# Altium footprint library adcs_pcb_lib.PcbLib: 11 footprints
Each footprint in its own frame and in the unit in brackets; x right, y up, seen from the top. Pads: shape width x height; smd on the part's side, far side on the other; paste and mask are expansions set on the pad; w line width, h text height; cw(c..) or ccw(c..) is an arc to the next point about the centre after c.
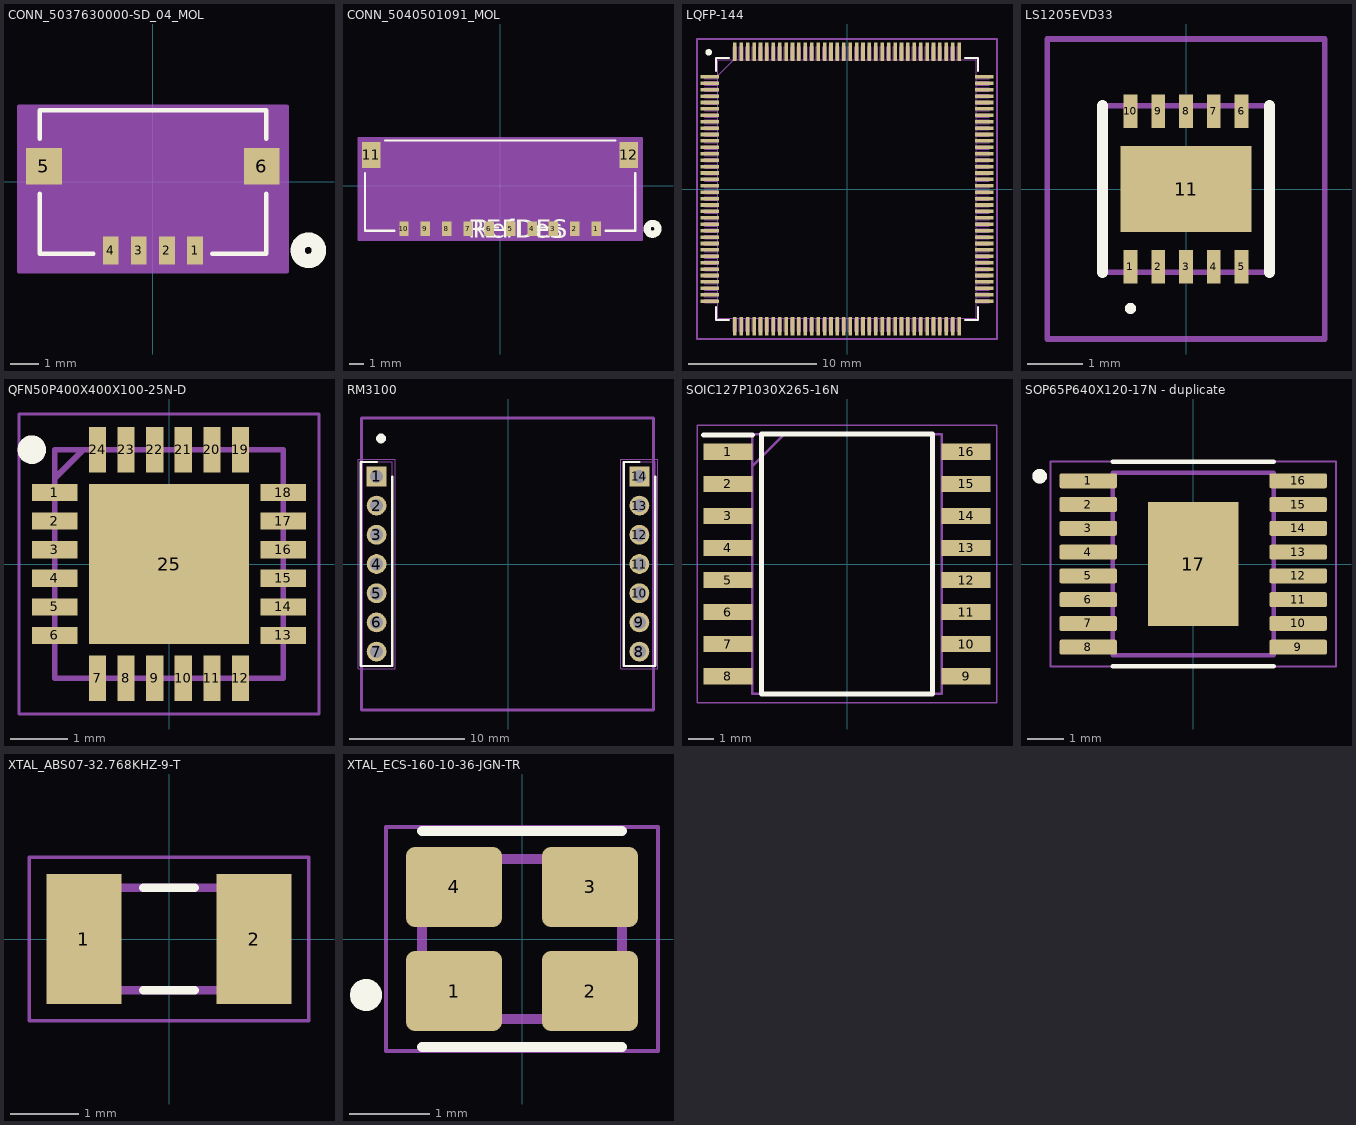
[diagram p0: the footprints below, top view; thin cyan lines are the x and y axes]

## CONN_5037630000-SD_04_MOL [mil]
pads (6):
  rect 22x39 smd paste+0 mask+0: 1(59.06,-95.84) 2(19.68,-95.84) 3(-19.68,-95.84) 4(-59.06,-95.84)
  rect 50x51 smd paste+0 mask+0: 5(-152.56,21.88) 6(152.56,21.88)
Top Overlay:
  circle w20: c217.56,-95.84 r15
  lines w6: -158.5,-16.72 -158.5,-100.5 -83.16,-100.5 ; -158.5,60.48 -158.5,100.5 158.5,100.5 158.5,60.48 ; 83.16,-100.5 158.5,-100.5 158.5,-16.72
Bottom Overlay:
  circle w20: c217.56,-95.84 r15
Mechanical 13:
  circle w20: c59.06,-95.84 r15
  lines w1: -153.5,-95.5 -153.5,95.5 153.5,95.5 153.5,-95.5 -153.5,-95.5
Mechanical 15:
  region: 187.56,105.5 -187.56,105.5 -187.56,-125.34 187.56,-125.34
  lines w6: -187.56,-125.34 187.56,-125.34 187.56,105.5 -187.56,105.5 -187.56,-125.34
3D body "5037630491.stp": height 55.91, standoff -3.15, extent -169.29,-105 169.29,99.33

## CONN_5040501091_MOL [mil]
pads (12):
  rect 26x41 smd paste+0 mask+0: 1(265.75,-119.76) 2(206.69,-119.76) 3(147.64,-119.76) 4(88.58,-119.76) 5(29.53,-119.76) 6(-29.53,-119.76) 7(-88.58,-119.76) 8(-147.64,-119.76) 9(-206.69,-119.76) 10(-265.75,-119.76)
  rect 51x73 smd paste+0 mask+0: 11(-356.5,84.57) 12(356.5,84.57)
Top Overlay:
  circle w20: c422,-119.76 r15
  lines w6: -374,34.97 -374,-125 -291.85,-125 ; -318.5,125 318.5,125 ; 291.85,-125 374,-125 374,34.97
  text "RefDes" at -75,-144.76 h50
  text "REFDES" at -87.5,-144.76 h50
Bottom Overlay:
  circle w20: c422,-119.76 r15
Mechanical 13:
  circle w20: c265.75,-119.76 r15
  lines w1: -369,-120 369,-120 369,120 -369,120 -369,-120
  text "RefDes2" at -87.5,-144.76 h50
Mechanical 15:
  region: 392,131.07 -392,131.07 -392,-150.26 392,-150.26
  lines w6: -392,-150.26 -392,131.07 392,131.07 392,-150.26 -392,-150.26

## LQFP-144 [mil]
pads (144):
  rect 57.56x11 smd paste+0: 1(-422,344.49) 2(-422,324.8) 3(-422,305.12) 4(-422,285.43) 5(-422,265.75) 6(-422,246.06) 7(-422,226.38) 8(-422,206.69) 9(-422,187.01) 10(-422,167.32) 11(-422,147.64) 12(-422,127.95) 13(-422,108.27) 14(-422,88.58) 15(-422,68.9) 16(-422,49.21) 17(-422,29.53) 18(-422,9.84) 19(-422,-9.84) 20(-422,-29.53) 21(-422,-49.21) 22(-422,-68.9) 23(-422,-88.58) 24(-422,-108.27) 25(-422,-127.95) 26(-422,-147.64) 27(-422,-167.32) 28(-422,-187.01) 29(-422,-206.69) 30(-422,-226.38) 31(-422,-246.06) 32(-422,-265.75) 33(-422,-285.43) 34(-422,-305.12) 35(-422,-324.8) 36(-422,-344.49) 73(422,-344.49) 74(422,-324.8) 75(422,-305.12) 76(422,-285.43) 77(422,-265.75) 78(422,-246.06) 79(422,-226.38) 80(422,-206.69) 81(422,-187.01) 82(422,-167.32) 83(422,-147.64) 84(422,-127.95) 85(422,-108.27) 86(422,-88.58) 87(422,-68.9) 88(422,-49.21) 89(422,-29.53) 90(422,-9.84) 91(422,9.84) 92(422,29.53) 93(422,49.21) 94(422,68.9) 95(422,88.58) 96(422,108.27) 97(422,127.95) 98(422,147.64) 99(422,167.32) 100(422,187.01) 101(422,206.69) 102(422,226.38) 103(422,246.06) 104(422,265.75) 105(422,285.43) 106(422,305.12) 107(422,324.8) 108(422,344.49)
  rect 11x57.56 smd paste+0: 37(-344.49,-422) 38(-324.8,-422) 39(-305.12,-422) 40(-285.43,-422) 41(-265.75,-422) 42(-246.06,-422) 43(-226.38,-422) 44(-206.69,-422) 45(-187.01,-422) 46(-167.32,-422) 47(-147.64,-422) 48(-127.95,-422) 49(-108.27,-422) 50(-88.58,-422) 51(-68.9,-422) 52(-49.21,-422) 53(-29.53,-422) 54(-9.84,-422) 55(9.84,-422) 56(29.53,-422) 57(49.21,-422) 58(68.9,-422) 59(88.58,-422) 60(108.27,-422) 61(127.95,-422) 62(147.64,-422) 63(167.32,-422) 64(187.01,-422) 65(206.69,-422) 66(226.38,-422) 67(246.06,-422) 68(265.75,-422) 69(285.43,-422) 70(305.12,-422) 71(324.8,-422) 72(344.49,-422) 109(344.49,422) 110(324.8,422) 111(305.12,422) 112(285.43,422) 113(265.75,422) 114(246.06,422) 115(226.38,422) 116(206.69,422) 117(187.01,422) 118(167.32,422) 119(147.64,422) 120(127.95,422) 121(108.27,422) 122(88.58,422) 123(68.9,422) 124(49.21,422) 125(29.53,422) 126(9.84,422) 127(-9.84,422) 128(-29.53,422) 129(-49.21,422) 130(-68.9,422) 131(-88.58,422) 132(-108.27,422) 133(-127.95,422) 134(-147.64,422) 135(-167.32,422) 136(-187.01,422) 137(-206.69,422) 138(-226.38,422) 139(-246.06,422) 140(-265.75,422) 141(-285.43,422) 142(-305.12,422) 143(-324.8,422) 144(-344.49,422)
Top Overlay:
  circle w10: c-425,420 r5
  lines w6: -402.5,-363.09 -402.5,-402.5 -363.09,-402.5 ; -402.5,363.09 -402.5,402.5 -363.09,402.5 ; 363.09,-402.5 402.5,-402.5 402.5,-363.09 ; 363.09,402.5 402.5,402.5 402.5,363.09
Mechanical 13:
  drawing of 581 lines, arcs and shapes, not listed
  text ".Designator" at -137.5,-25 h50
  text "*" at -355,315 h50
Mechanical 15:
  lines w6: -460.78,-460.78 -460.78,-359.99 -460.78,450 -460.78,459.22 -459.22,460.78 -359.99,460.78 359.99,460.78 460.78,460.78 460.78,359.99 460.78,-359.99 460.78,-460.78 359.99,-460.78 -359.99,-460.78 -460.78,-460.78
3D body "LQFP-144.step": height 63.11, standoff 0, extent -437.01,-437.01 437.01,437.01

## LS1205EVD33 [mm]
pads (11):
  rect 0.25x0.6 smd: 1(-1,-1.4) 2(-0.5,-1.4) 3(0,-1.4) 4(0.5,-1.4) 5(1,-1.4) 6(1,1.4) 7(0.5,1.4) 8(0,1.4) 9(-0.5,1.4) 10(-1,1.4)
  rect 2.35x1.55 smd: 11(0,0)
Top Overlay:
  lines w0.1: -1,-2.2 ccw(c-1,-2.15) -1,-2.1 ccw(c-1,-2.15) -1,-2.2
  lines w0.2: -1.5,-1.5 -1.5,1.5 ; 1.5,-1.5 1.5,1.5
Mechanical 15:
  lines w0.1: -1.5,-1.5 1.5,-1.5 1.5,1.5 -1.5,1.5 -1.5,-1.5
Mechanical 20:
  lines w0.1: -2.5,-2.7 2.5,-2.7 2.5,2.7 -2.5,2.7 -2.5,-2.7
3D body "LS1205EVD33.stp": height 0.75, standoff 0, extent -1.5,-1.5 1.5,1.5

## PCBComponent_1 [mm]

## QFN50P400X400X100-25N-D [mm]
pads (25):
  rect 0.8x0.3 smd: 1(-2,1.25) 2(-2,0.75) 3(-2,0.25) 4(-2,-0.25) 5(-2,-0.75) 6(-2,-1.25) 13(2,-1.25) 14(2,-0.75) 15(2,-0.25) 16(2,0.25) 17(2,0.75) 18(2,1.25)
  rect 0.3x0.8 smd: 7(-1.25,-2) 8(-0.75,-2) 9(-0.25,-2) 10(0.25,-2) 11(0.75,-2) 12(1.25,-2) 19(1.25,2) 20(0.75,2) 21(0.25,2) 22(-0.25,2) 23(-0.75,2) 24(-1.25,2)
  rect 2.8x2.8 smd: 25(0,0)
Top Overlay:
  circle w0.25: c-2.4,2 r0.125
Mechanical 13:
  lines w0.1: -2,1.5 -1.5,2 ; -2,-2 2,-2 2,2 -2,2 -2,-2
Mechanical 15:
  lines w0.05: -2.625,-2.625 2.625,-2.625 2.625,2.625 -2.625,2.625 -2.625,-2.625
3D body "TCA9548ARGERQ1.stp": height 1, standoff 0, extent -2,-2 2,2

## RM3100 [mm]
pads (14):
  rect 1.725x1.725 hole 1.15: 1(-11.43,7.62) 14(11.43,7.62)
  round 1.725 hole 1.15: 2(-11.43,5.08) 3(-11.43,2.54) 4(-11.43,0) 5(-11.43,-2.54) 6(-11.43,-5.08) 7(-11.43,-7.62) 8(11.43,-7.62) 9(11.43,-5.08) 10(11.43,-2.54) 11(11.43,0) 12(11.43,2.54) 13(11.43,5.08)
Top Layer:
Top Overlay:
  circle w0.45: c-11.049,10.922 r0.2
  lines w0.2: -11.43,8.88 -12.8,8.88 -12.8,-8.88 -10.06,-8.88 -10.06,7.62 ; 11.43,8.88 10.06,8.88 10.06,-8.88 12.8,-8.88 12.8,7.62
Mechanical 1:
  lines w0.254: -12.749,-12.7 -12.749,0 -12.749,12.7 12.651,12.7 12.651,-12.7 -12.749,-12.7
Mechanical 13:
  lines w0.1: -12.8,-8.88 -12.8,8.88 -10.06,8.88 -10.06,-8.88 -12.8,-8.88 ; 10.06,-8.88 10.06,8.88 12.8,8.88 12.8,-8.88 10.06,-8.88
Mechanical 15:
  lines w0.05: -12.744,-9.315 -12.744,6.775 ; -13.05,-9.13 -13.05,9.13 -9.81,9.13 -9.81,-9.13 -13.05,-9.13 ; 9.81,-9.13 9.81,9.13 13.05,9.13 13.05,-9.13 9.81,-9.13
3D body "(13606-R04)PCA RM3100.STEP": height 9.66, standoff -5.64, extent -12.827,-12.7 12.573,12.7

## SOIC127P1030X265-16N [mm]
pads (16):
  rect 1.95x0.65 smd: 1(-4.725,4.445) 2(-4.725,3.175) 3(-4.725,1.905) 4(-4.725,0.635) 5(-4.725,-0.635) 6(-4.725,-1.905) 7(-4.725,-3.175) 8(-4.725,-4.445) 9(4.725,-4.445) 10(4.725,-3.175) 11(4.725,-1.905) 12(4.725,-0.635) 13(4.725,0.635) 14(4.725,1.905) 15(4.725,3.175) 16(4.725,4.445)
Top Overlay:
  lines w0.2: -5.7,5.12 -3.75,5.12 ; -3.4,-5.15 3.4,-5.15 3.4,5.15 -3.4,5.15 -3.4,-5.15
Mechanical 13:
  lines w0.1: -3.75,3.88 -2.48,5.15 ; -3.75,-5.15 3.75,-5.15 3.75,5.15 -3.75,5.15 -3.75,-5.15
Mechanical 15:
  lines w0.05: -5.95,-5.5 5.95,-5.5 5.95,5.5 -5.95,5.5 -5.95,-5.5
3D body "ISO6763DWR.stp": height 2.59, standoff 0, extent -5.167,-5.15 5.167,5.15

## SOP65P640X120-17N - duplicate [mm]
pads (17):
  rrect25% 1.57x0.41 smd: 1(-2.87,2.275) 2(-2.87,1.625) 3(-2.87,0.975) 4(-2.87,0.325) 5(-2.87,-0.325) 6(-2.87,-0.975) 7(-2.87,-1.625) 8(-2.87,-2.275) 9(2.87,-2.275) 10(2.87,-1.625) 11(2.87,-0.975) 12(2.87,-0.325) 13(2.87,0.325) 14(2.87,0.975) 15(2.87,1.625) 16(2.87,2.275)
  rect 2.48x3.4 smd paste-3: 17(0,0)
Top Overlay:
  circle w0.2: c-4.2,2.4 r0.1
  lines w0.127: -2.2,-2.8 2.2,-2.8 ; -2.2,2.8 2.2,2.8
Top Paste:
  region: 0.8,-1.075 -0.8,-1.075 -0.8,1.075 0.8,1.075
Mechanical 13:
  circle w0.2: c-4.2,2.4 r0.1
  lines w0.127: -2.2,-2.5 -2.2,2.5 2.2,2.5 2.2,-2.5 -2.2,-2.5
Mechanical 15:
  lines w0.05: -3.905,-2.8 -3.905,2.8 3.905,2.8 3.905,-2.8 -3.905,-2.8
3D body "step_temp.STEP": height 1.2, standoff 0, extent -3.2,-2.5 3.2,2.5

## XTAL_ABS07-32.768KHZ-9-T [mm]
height 0.9
pads (2):
  rect 1.1x1.9 smd: 1(-1.25,0) 2(1.25,0)
Top Overlay:
  lines w0.127: -0.38,-0.75 0.38,-0.75 ; -0.38,0.75 0.38,0.75
Mechanical 13:
  lines w0.127: -1.6,-0.75 -1.6,0.75 1.6,0.75 1.6,-0.75 -1.6,-0.75
Mechanical 15:
  lines w0.05: -2.05,-1.2 -2.05,1.2 2.05,1.2 2.05,-1.2 -2.05,-1.2
3D body "step_temp.STEP": height 0.9, standoff 0, extent -1.6,-0.75 1.6,0.75

## XTAL_ECS-160-10-36-JGN-TR [mm]
pads (4):
  rrect22% 1.2x1 smd: 1(-0.85,-0.65) 2(0.85,-0.65) 3(0.85,0.65) 4(-0.85,0.65)
Top Overlay:
  circle w0.2: c-1.95,-0.7 r0.1
  lines w0.127: -1.25,-1.35 1.25,-1.35 ; -1.25,1.35 1.25,1.35
Mechanical 13:
  circle w0.2: c-0.75,-0.6 r0.1
  lines w0.127: -1.25,-1 -1.25,1 1.25,1 1.25,-1 -1.25,-1
Mechanical 15:
  lines w0.05: -1.7,-1.4 -1.7,1.4 1.7,1.4 1.7,-1.4 -1.7,-1.4
3D body "step_temp.STEP": height 0.5, standoff 0, extent -1.25,-1 1.25,1